# Altium schematic symbol library MyLibrarySum.SCHLIB: 142 symbols
Pins are listed as number, name and electrical type; pins without a type are passive.

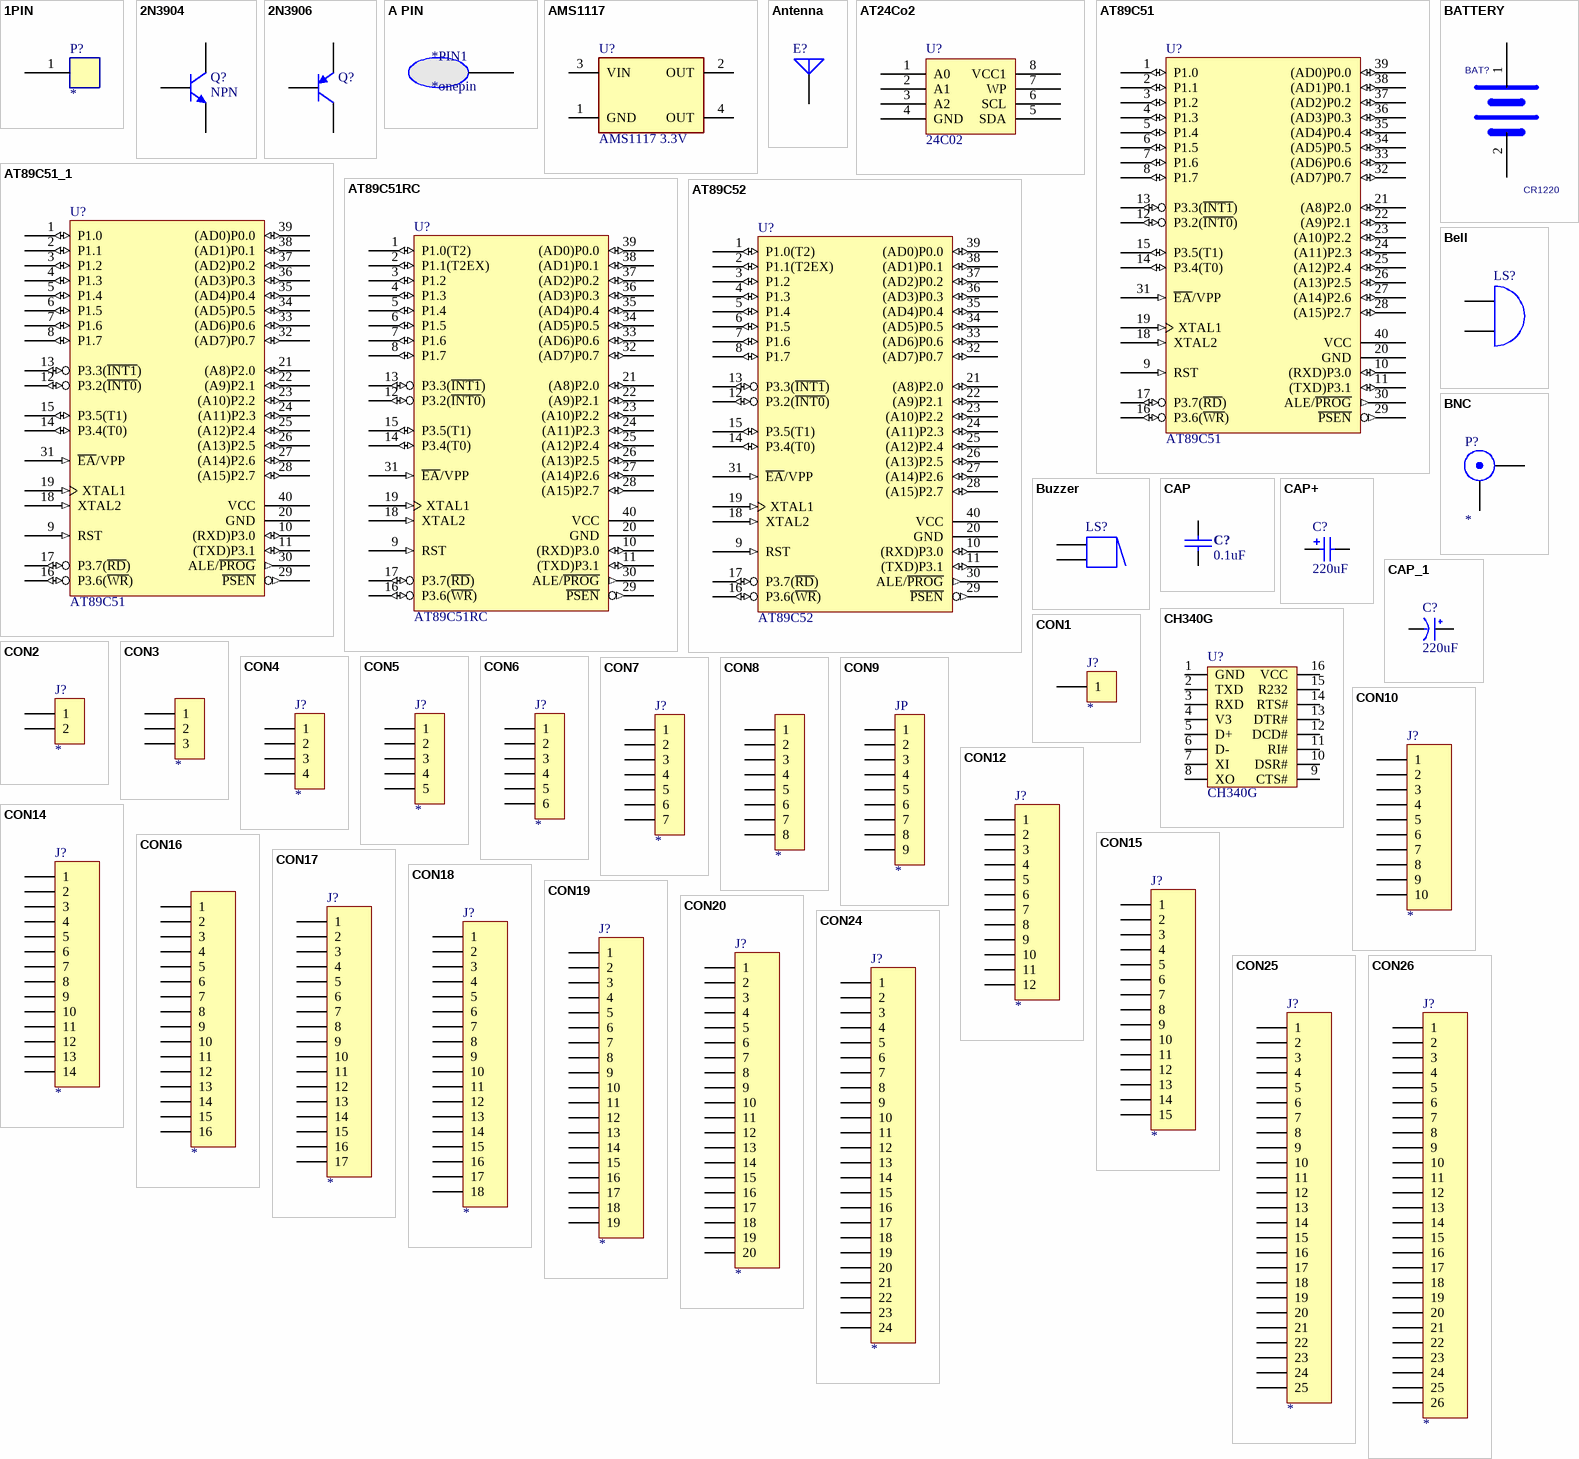
[diagram p0: symbols 1PIN to CON26]

## 1PIN
designator P?
footprint P
footprint HEADER-1
pins: 1

## 2N3904
designator Q?, comment NPN
NPN General Purpose Amplifier; Published: 8-Jun-2000; LatestRevisionDate: 15-Jan-2003; LatestRevisionNote: PCB Footprint 'BCY-W3/D4.7' replaced; DatasheetDocument: 1997; PackageDocument: Sep-1998; PackageReference: TO-92A; Publisher: Altium Limited; Code_JEDEC: TO-92A; ComponentLink1Description: Manufacturer Link; ComponentLink1URL: http://www.fairchildsemi.com/; ComponentLink2Description: Datasheet; ComponentLink2URL: http://www.fairchildsemi.com/ds/2N%2F2N3904.pdf
footprint TO-92A (TO, Flat Index; 3 In-Line, Axial Leads; Body Dia. 4.5mm; Leads 0.51 x 0.48 mm (max))
simulation model 2N3904 (NPN)
signal-integrity model 2N3904
pins: 1 E, 2 B, 3 C

## 2N3906
designator Q?
PNP General Purpose Amplifier; Published: 8-Jun-2000; LatestRevisionDate: 15-Jan-2003; LatestRevisionNote: PCB Footprint 'BCY-W3/D4.7' replaced; DatasheetDocument: 1997; PackageDocument: Sep-1998; PackageReference: TO-92A; Publisher: Altium Limited; Code_JEDEC: TO-92A; ComponentLink1Description: Manufacturer Link; ComponentLink1URL: http://www.fairchildsemi.com/; ComponentLink2Description: Datasheet; ComponentLink2URL: http://www.fairchildsemi.com/ds/2N%2F2N3906.pdf
footprint TO-92A (TO, Flat Index; 3 In-Line, Axial Leads; Body Dia. 4.5mm; Leads 0.51 x 0.48 mm (max))
simulation model 2N3906 (PNP)
signal-integrity model 2N3906
pins: 1 E, 2 B, 3 C

## A PIN
designator *PIN1, comment *onepin
footprint Pad_V2
footprint Pad
pins: onepin 25

## AMS1117
designator U?, comment AMS1117 3.3V
footprint SOT-223
pins: 1 GND, 2 OUT, 3 VIN, 4 OUT

## Antenna
designator E?
Generic Antenna; Published: 24-Mar-1999; LatestRevisionDate: 17-Jul-2002; LatestRevisionNote: Re-released for DXP Platform.; PackageReference: PIN1; Publisher: Altium Limited
footprint PIN1 (Generic Antenna; 1 Lead)
pins: 1 A

## AT24Co2
designator U?, comment 24C02
footprint SOP-8 (SOP)
pins: 1 A0, 2 A1, 3 A2, 4 GND, 5 SDA, 6 SCL, 7 WP, 8 VCC1

## AT89C51
designator U?
8-Bit Microcontroller with 4K Flash ROM
footprint DIP-40
footprint DIP40
pins: 1 P1.0 (io), 2 P1.1 (io), 3 P1.2 (io), 4 P1.3 (io), 5 P1.4 (io), 6 P1.5 (io), 7 P1.6 (io), 8 P1.7 (io), 9 RST (in), 10 (RXD)P3.0 (io), 11 (TXD)P3.1 (io), 12 P3.2(~{INT0}) (io), 13 P3.3(~{INT1}) (io), 14 P3.4(T0) (io), 15 P3.5(T1) (io), 16 P3.6(~{WR}) (io), 17 P3.7(~{RD}) (io), 18 XTAL2 (in), 19 XTAL1 (in), 20 GND (power), 21 (A8)P2.0 (io), 22 (A9)P2.1 (io), 23 (A10)P2.2 (io), 24 (A11)P2.3 (io), 25 (A12)P2.4 (io), 26 (A13)P2.5 (io), 27 (A14)P2.6 (io), 28 (A15)P2.7 (io), 29 ~{PSEN} (out), 30 ALE/~{PROG} (out), 31 ~{EA}/VPP (in), 32 (AD7)P0.7 (io), 33 (AD6)P0.6 (io), 34 (AD5)P0.5 (io), 35 (AD4)P0.4 (io), 36 (AD3)P0.3 (io), 37 (AD2)P0.2 (io), 38 (AD1)P0.1 (io), 39 (AD0)P0.0 (io), 40 VCC (power)

## AT89C51_1
designator U?, comment AT89C51
8-Bit Microcontroller with 4K Flash ROM
footprint DIP-40
footprint DIP40
pins: 1 P1.0 (io), 2 P1.1 (io), 3 P1.2 (io), 4 P1.3 (io), 5 P1.4 (io), 6 P1.5 (io), 7 P1.6 (io), 8 P1.7 (io), 9 RST (in), 10 (RXD)P3.0 (io), 11 (TXD)P3.1 (io), 12 P3.2(~{INT0}) (io), 13 P3.3(~{INT1}) (io), 14 P3.4(T0) (io), 15 P3.5(T1) (io), 16 P3.6(~{WR}) (io), 17 P3.7(~{RD}) (io), 18 XTAL2 (in), 19 XTAL1 (in), 20 GND (power), 21 (A8)P2.0 (io), 22 (A9)P2.1 (io), 23 (A10)P2.2 (io), 24 (A11)P2.3 (io), 25 (A12)P2.4 (io), 26 (A13)P2.5 (io), 27 (A14)P2.6 (io), 28 (A15)P2.7 (io), 29 ~{PSEN} (out), 30 ALE/~{PROG} (out), 31 ~{EA}/VPP (in), 32 (AD7)P0.7 (io), 33 (AD6)P0.6 (io), 34 (AD5)P0.5 (io), 35 (AD4)P0.4 (io), 36 (AD3)P0.3 (io), 37 (AD2)P0.2 (io), 38 (AD1)P0.1 (io), 39 (AD0)P0.0 (io), 40 VCC (power)

## AT89C51RC
designator U?
8-Bit Microcontroller with 32K Flash ROM
footprint DIP-40
footprint DIP40
pins: 1 P1.0(T2) (io), 2 P1.1(T2EX) (io), 3 P1.2 (io), 4 P1.3 (io), 5 P1.4 (io), 6 P1.5 (io), 7 P1.6 (io), 8 P1.7 (io), 9 RST (in), 10 (RXD)P3.0 (io), 11 (TXD)P3.1 (io), 12 P3.2(~{INT0}) (io), 13 P3.3(~{INT1}) (io), 14 P3.4(T0) (io), 15 P3.5(T1) (io), 16 P3.6(~{WR}) (io), 17 P3.7(~{RD}) (io), 18 XTAL2 (in), 19 XTAL1 (in), 20 GND (power), 21 (A8)P2.0 (io), 22 (A9)P2.1 (io), 23 (A10)P2.2 (io), 24 (A11)P2.3 (io), 25 (A12)P2.4 (io), 26 (A13)P2.5 (io), 27 (A14)P2.6 (io), 28 (A15)P2.7 (io), 29 ~{PSEN} (out), 30 ALE/~{PROG} (out), 31 ~{EA}/VPP (in), 32 (AD7)P0.7 (io), 33 (AD6)P0.6 (io), 34 (AD5)P0.5 (io), 35 (AD4)P0.4 (io), 36 (AD3)P0.3 (io), 37 (AD2)P0.2 (io), 38 (AD1)P0.1 (io), 39 (AD0)P0.0 (io), 40 VCC (power)

## AT89C52
designator U?
8-Bit Microcontroller with 8K Flash ROM
footprint DIP-40
footprint DIP40
pins: 1 P1.0(T2) (io), 2 P1.1(T2EX) (io), 3 P1.2 (io), 4 P1.3 (io), 5 P1.4 (io), 6 P1.5 (io), 7 P1.6 (io), 8 P1.7 (io), 9 RST (in), 10 (RXD)P3.0 (io), 11 (TXD)P3.1 (io), 12 P3.2(~{INT0}) (io), 13 P3.3(~{INT1}) (io), 14 P3.4(T0) (io), 15 P3.5(T1) (io), 16 P3.6(~{WR}) (io), 17 P3.7(~{RD}) (io), 18 XTAL2 (in), 19 XTAL1 (in), 20 GND (power), 21 (A8)P2.0 (io), 22 (A9)P2.1 (io), 23 (A10)P2.2 (io), 24 (A11)P2.3 (io), 25 (A12)P2.4 (io), 26 (A13)P2.5 (io), 27 (A14)P2.6 (io), 28 (A15)P2.7 (io), 29 ~{PSEN} (out), 30 ALE/~{PROG} (out), 31 ~{EA}/VPP (in), 32 (AD7)P0.7 (io), 33 (AD6)P0.6 (io), 34 (AD5)P0.5 (io), 35 (AD4)P0.4 (io), 36 (AD3)P0.3 (io), 37 (AD2)P0.2 (io), 38 (AD1)P0.1 (io), 39 (AD0)P0.0 (io), 40 VCC (power)

## BATTERY
designator BAT?, comment CR1220
footprint BATTERY-CELL (BAT1)
footprint BAT1
pins: 1 +, 2 GND

## Bell
designator LS?
Electrical Bell; Published: 24-Mar-1999; LatestRevisionDate: 17-Jul-2002; LatestRevisionNote: Re-released for DXP Platform.; PackageReference: PIN2; Publisher: Altium Limited
footprint PIN2 (Electrical Bell; 2 Leads)
footprint BUZZER
pins: 1 A, 2 B

## BNC
designator P?
BNC Connector
pins: 1 X, 2 Y

## Buzzer
designator LS?
Magnetic Transducer Buzzer; Published: 24-Mar-1999; LatestRevisionDate: 17-Dec-2003; LatestRevisionNote: Schematic revised, PCB Footprint replaced.; DatasheetDocument: 17-Dec-2003; PackageReference: ABSM-1574; Publisher: Altium Limited; ComponentLink1Description: Manufacturer Link; ComponentLink1URL: http://www.megastar.com/linecard/buzzmode/index.php
footprint ABSM-1574 (Magnetic Transducer Buzzer)
footprint BUZZER
pins: 1, 1A, 2, 2A
1 alternate drawing of the same symbol

## CAP
designator C?, comment 0.1uF
SMT电容; Precision: 6.3V耐压; LIB: SMT电容
footprint C0603
footprint C0402 (SMT电容)
footprint C0201
pins: 1, 2

## CAP+
designator C?, comment 220uF
footprint CAP-D8
footprint CAP-D8SMD
footprint CAP-D10
footprint CAP-D10SMD
pins: 1, 2

## CAP_1
designator C?, comment 220uF
footprint C1206
footprint CAP2.54 (RB.1/.2)
footprint CAP5.08 (RB.2/.4)
footprint CAP7.62 (25V 2200uF)
footprint CAP10.16 (50V10000uF)
footprint CAP10.9 (50V 2200uF)
footprint CAP3.0 (100V 10uF)
footprint CAP8.0 (25V/4700uF)
footprint CAP8.0_2 (50V/4700uF)
footprint C7040 (7MM*4MM)
footprint CC1010 (SMD;W:10mm;L:10mm;)
footprint CC6.56.5 (SMD;W:6.5mm;L:6.5mm;)
footprint CC88 (SMD;W:8mm;L:8mm;)
pins: 1 VCC, 2 GND

## CH340G
designator U?
USB2UART
footprint SOP16M
pins: 1 GND, 2 TXD, 3 RXD, 4 V3, 5 D+, 6 D-, 7 XI, 8 XO, 9 CTS#, 10 DSR#, 11 RI#, 12 DCD#, 13 DTR#, 14 RTS#, 15 R232, 16 VCC

## CON1
designator J?
Connector
pins: 1

## CON2
designator J?
Connector
pins: 1, 2

## CON3
designator ?
Connector
footprint SIP3
footprint SIP-3
pins: 1, 2, 3

## CON4
designator J?
Connector
pins: 1, 2, 3, 4

## CON5
designator J?
Connector
pins: 1, 2, 3, 4, 5

## CON6
designator J?
Connector
pins: 1, 2, 3, 4, 5, 6

## CON7
designator J?
Connector
pins: 1, 2, 3, 4, 5, 6, 7

## CON8
designator ?
Connector
footprint SIP8
footprint SIP-8
pins: 1, 2, 3, 4, 5, 6, 7, 8

## CON9
designator JP
Connector
footprint SIP9
pins: 1, 2, 3, 4, 5, 6, 7, 8, 9

## CON10
designator J?
Connector
pins: 1, 2, 3, 4, 5, 6, 7, 8, 9, 10

## CON12
designator J?
Connector
pins: 1, 2, 3, 4, 5, 6, 7, 8, 9, 10, 11, 12

## CON14
designator J?
Connector
pins: 1, 2, 3, 4, 5, 6, 7, 8, 9, 10, 11, 12, 13, 14

## CON15
designator J?
Connector
pins: 1, 2, 3, 4, 5, 6, 7, 8, 9, 10, 11, 12, 13, 14, 15

## CON16
designator ?
Connector
footprint SIP16
footprint SIP-16
pins: 1, 2, 3, 4, 5, 6, 7, 8, 9, 10, 11, 12, 13, 14, 15, 16

## CON17
designator J?
Connector
pins: 1, 2, 3, 4, 5, 6, 7, 8, 9, 10, 11, 12, 13, 14, 15, 16, 17

## CON18
designator J?
Connector
pins: 1, 2, 3, 4, 5, 6, 7, 8, 9, 10, 11, 12, 13, 14, 15, 16, 17, 18

## CON19
designator J?
Connector
pins: 1, 2, 3, 4, 5, 6, 7, 8, 9, 10, 11, 12, 13, 14, 15, 16, 17, 18, 19

## CON20
designator J?
Connector
pins: 1, 2, 3, 4, 5, 6, 7, 8, 9, 10, 11, 12, 13, 14, 15, 16, 17, 18, 19, 20

## CON24
designator J?
Connector
pins: 1, 2, 3, 4, 5, 6, 7, 8, 9, 10, 11, 12, 13, 14, 15, 16, 17, 18, 19, 20, 21, 22, 23, 24

## CON25
designator J?
Connector
pins: 1, 2, 3, 4, 5, 6, 7, 8, 9, 10, 11, 12, 13, 14, 15, 16, 17, 18, 19, 20, 21, 22, 23, 24, 25

## CON26
designator J?
Connector
pins: 1, 2, 3, 4, 5, 6, 7, 8, 9, 10, 11, 12, 13, 14, 15, 16, 17, 18, 19, 20, 21, 22, 23, 24, 25, 26

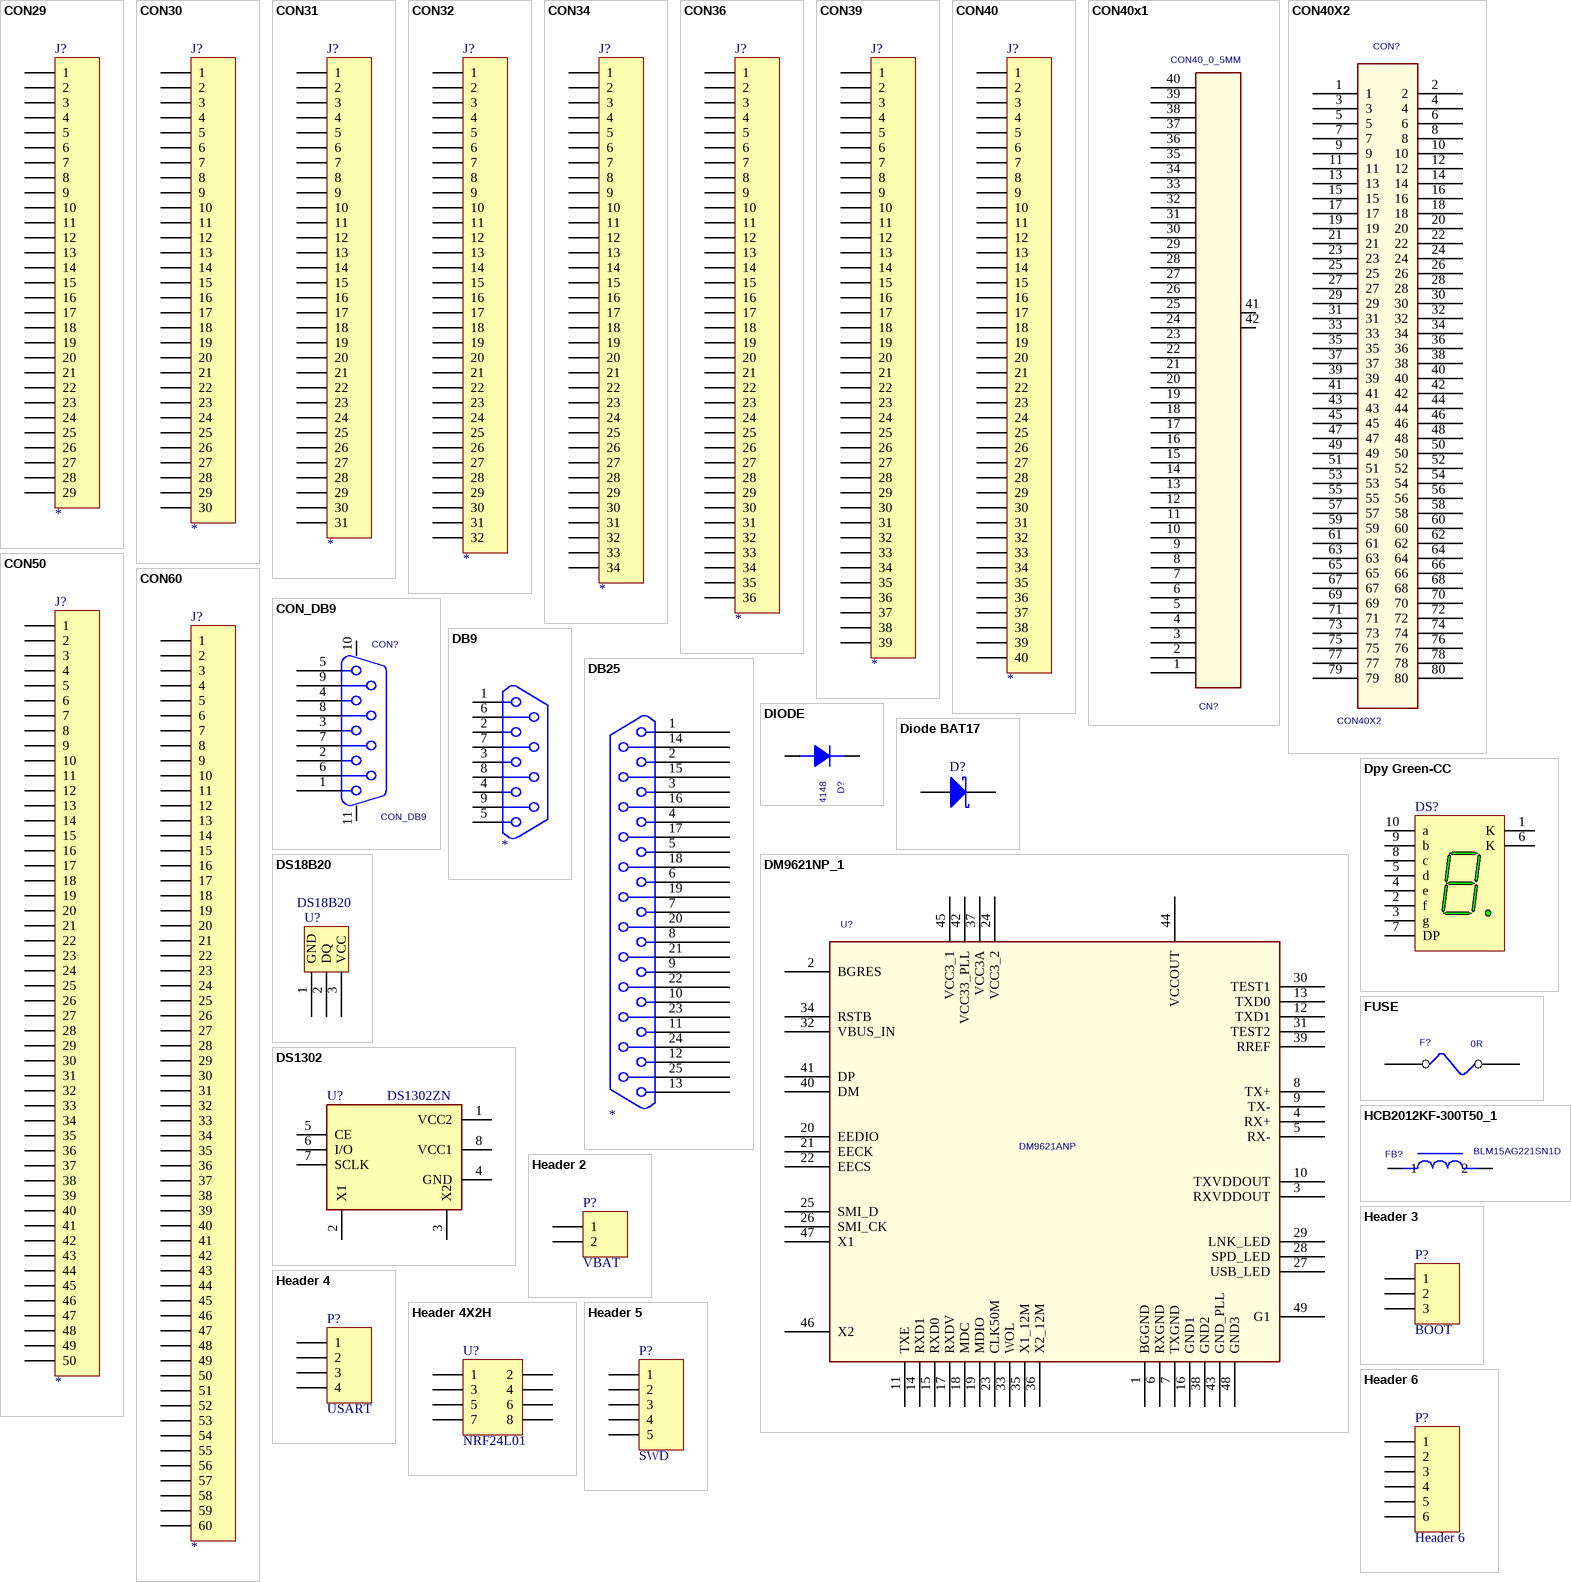
[diagram p1: symbols CON29 to Header 6]

## CON29
designator J?
Connector
pins: 1, 2, 3, 4, 5, 6, 7, 8, 9, 10, 11, 12, 13, 14, 15, 16, 17, 18, 19, 20, 21, 22, 23, 24, 25, 26, 27, 28, 29

## CON30
designator J?
Connector
pins: 1, 2, 3, 4, 5, 6, 7, 8, 9, 10, 11, 12, 13, 14, 15, 16, 17, 18, 19, 20, 21, 22, 23, 24, 25, 26, 27, 28, 29, 30

## CON31
designator J?
Connector
pins: 1, 2, 3, 4, 5, 6, 7, 8, 9, 10, 11, 12, 13, 14, 15, 16, 17, 18, 19, 20, 21, 22, 23, 24, 25, 26, 27, 28, 29, 30, 31

## CON32
designator J?
Connector
pins: 1, 2, 3, 4, 5, 6, 7, 8, 9, 10, 11, 12, 13, 14, 15, 16, 17, 18, 19, 20, 21, 22, 23, 24, 25, 26, 27, 28, 29, 30, 31, 32

## CON34
designator J?
Connector
pins: 1, 2, 3, 4, 5, 6, 7, 8, 9, 10, 11, 12, 13, 14, 15, 16, 17, 18, 19, 20, 21, 22, 23, 24, 25, 26, 27, 28, 29, 30, 31, 32, 33, 34

## CON36
designator J?
Connector
pins: 1, 2, 3, 4, 5, 6, 7, 8, 9, 10, 11, 12, 13, 14, 15, 16, 17, 18, 19, 20, 21, 22, 23, 24, 25, 26, 27, 28, 29, 30, 31, 32, 33, 34, 35, 36

## CON39
designator J?
Connector
pins: 1, 2, 3, 4, 5, 6, 7, 8, 9, 10, 11, 12, 13, 14, 15, 16, 17, 18, 19, 20, 21, 22, 23, 24, 25, 26, 27, 28, 29, 30, 31, 32, 33, 34, 35, 36, 37, 38, 39

## CON40
designator J?
Connector
pins: 1, 2, 3, 4, 5, 6, 7, 8, 9, 10, 11, 12, 13, 14, 15, 16, 17, 18, 19, 20, 21, 22, 23, 24, 25, 26, 27, 28, 29, 30, 31, 32, 33, 34, 35, 36, 37, 38, 39, 40

## CON40x1
designator CN?, comment CON40_0_5MM
footprint CON60_0_5MM
footprint FPC40-050
pins: 1, 2, 3, 4, 5, 6, 7, 8, 9, 10, 11, 12, 13, 14, 15, 16, 17, 18, 19, 20, 21, 22, 23, 24, 25, 26, 27, 28, 29, 30, 31, 32, 33, 34, 35, 36, 37, 38, 39, 40, 41, 42

## CON40X2
designator CON?
footprint CON40X2_0_8MM
footprint CON2X40-0_5MM-BB
pins: 1, 2, 3, 4, 5, 6, 7, 8, 9, 10, 11, 12, 13, 14, 15, 16, 17, 18, 19, 20, 21, 22, 23, 24, 25, 26, 27, 28, 29, 30, 31, 32, 33, 34, 35, 36, 37, 38, 39, 40, 41, 42, 43, 44, 45, 46, 47, 48, 49, 50, 51, 52, 53, 54, 55, 56, 57, 58, 59, 60, 61, 62, 63, 64, 65, 66, 67, 68, 69, 70, 71, 72, 73, 74, 75, 76, 77, 78, 79, 80

## CON50
designator J?
Connector
pins: 1, 2, 3, 4, 5, 6, 7, 8, 9, 10, 11, 12, 13, 14, 15, 16, 17, 18, 19, 20, 21, 22, 23, 24, 25, 26, 27, 28, 29, 30, 31, 32, 33, 34, 35, 36, 37, 38, 39, 40, 41, 42, 43, 44, 45, 46, 47, 48, 49, 50

## CON60
designator J?
Connector
pins: 1, 2, 3, 4, 5, 6, 7, 8, 9, 10, 11, 12, 13, 14, 15, 16, 17, 18, 19, 20, 21, 22, 23, 24, 25, 26, 27, 28, 29, 30, 31, 32, 33, 34, 35, 36, 37, 38, 39, 40, 41, 42, 43, 44, 45, 46, 47, 48, 49, 50, 51, 52, 53, 54, 55, 56, 57, 58, 59, 60

## CON_DB9
designator CON?
footprint DB9
footprint dsub9-ra-fe
pins: 1, 2, 3, 4, 5, 6, 7, 8, 9, 10, 11

## DB9
designator ?
footprint DB9M
pins: 1, 2, 3, 4, 5, 6, 7, 8, 9

## DB25
designator ?
footprint DB-25/M
footprint DB25Z
pins: 1, 2, 3, 4, 5, 6, 7, 8, 9, 10, 11, 12, 13, 14, 15, 16, 17, 18, 19, 20, 21, 22, 23, 24, 25

## DIODE
designator D?, comment IN4148
footprint D1206
pins: 1 A, 2 K

## Diode BAT17
designator D?
Silicon RF Schottky Diode for Mixer Applications in the VHF/UHF Range; Note: Pin 2 is not connected and not drawn.; Published: 21-Mar-2003; DatasheetDocument: Oct-1999; PackageDocument: Sep-2001; PackageReference: SOT-23; Publisher: Altium Limited; ComponentLink1Description: Manufacturer Link; ComponentLink1URL: http://www.infineon.com/; ComponentLink2Description: Datasheet; ComponentLink2URL: http://www.infineon.com/upload/Document/cmc_upload/documents/009/363/bat17series.pdf
footprint SOT-23 (SOT-23; 3 Leads; Body 3.0 x 2.6 mm, inc. leads (LxW max))
simulation model D188 (DIODE)
pins: 1 A, 3 K

## DM9621NP_1
designator U?, comment DM9621ANP
footprint QFN48-050-0707LH
footprint QFN48-050-0707LH
pins: 1 BGGND, 2 BGRES, 3 RXVDDOUT, 4 RX+, 5 RX-, 6 RXGND, 7 TXGND, 8 TX+, 9 TX-, 10 TXVDDOUT, 11 TXE, 12 TXD1, 13 TXD0, 14 RXD1, 15 RXD0, 16 GND1, 17 RXDV, 18 MDC, 19 MDIO, 20 EEDIO, 21 EECK, 22 EECS, 23 CLK50M, 24 VCC3_2, 25 SMI_D, 26 SMI_CK, 27 USB_LED, 28 SPD_LED, 29 LNK_LED, 30 TEST1, 31 TEST2, 32 VBUS_IN, 33 WOL, 34 RSTB, 35 X1_12M, 36 X2_12M, 37 VCC3A, 38 GND2, 39 RREF, 40 DM, 41 DP, 42 VCC33_PLL, 43 GND_PLL, 44 VCCOUT, 45 VCC3_1, 46 X2, 47 X1, 48 GND3, 49 G1

## Dpy Green-CC
designator DS?
7.62 mm Black Surface Green 7-Segment Display: CC, RH DP; MinimumIntensity: 860 ucd; Note: IF = 10 mA; Note: Pins 1 and 6 are redundant Cathodes.; Published: 8-Jun-2000; LatestRevisionDate: 17-Dec-2003; LatestRevisionNote: Schematic revised, PCB Footprint replaced.; DatasheetDocument: 19-Feb-2002; PackageDocument: 19-Feb-2002; PackageReference: LEDDIP-10; Publisher: Altium Limited; Colour: Green; ComponentLink1Description: Manufacturer Link; ComponentLink1URL: http://www.agilent.com/
footprint LEDDIP-10 (LED, 7-Segment Display, 7.62 mm, RHD; 10 Leads; Row Space 5.08 mm; Pitch 2.54 mm)
simulation model HDSP_A513 (SUBCKT)
pins: 1 K "Cathode", 2 f "Anode", 3 g "Anode", 4 e "Anode", 5 d "Anode", 6 K "Cathode", 7 DP "Anode", 8 c "Anode", 9 b "Anode", 10 a "Anode"

## DS18B20
designator U?
footprint DS18B20
pins: 1 GND, 2 DQ, 3 VCC

## DS1302
designator U?, comment DS1302ZN
footprint SOP-8
pins: 1 VCC2, 2 X1, 3 X2, 4 GND, 5 CE, 6 I/O, 7 SCLK, 8 VCC1

## FUSE
designator F?, comment 0R
footprint R0603
pins: 1, 2

## HCB2012KF-300T50_1
designator FB?, comment BLM15AG221SN1D
footprint FB2012
footprint L0402
pins: 1, 2

## Header 2
designator P?, comment VBAT
Header, 2-Pin; LatestRevisionDate: 17-Jul-2002; LatestRevisionNote: Re-released for DXP Platform.; Publisher: Altium Limited
footprint HDR1X2 (Connector; Header; 2 Position)
signal-integrity model Connector
pins: 1, 2

## Header 3
designator P?, comment BOOT
Header, 3-Pin; LatestRevisionDate: 17-Jul-2002; LatestRevisionNote: Re-released for DXP Platform.; Publisher: Altium Limited
footprint HDR1X3 (Connector; Header; 3 Position)
signal-integrity model Connector
pins: 1, 2, 3

## Header 4
designator P?, comment USART
Header, 4-Pin; LatestRevisionDate: 17-Jul-2002; LatestRevisionNote: Re-released for DXP Platform.; Publisher: Altium Limited
footprint HDR1X4 (Connector; Header; 4 Position)
signal-integrity model Connector
pins: 1, 2, 3, 4

## Header 4X2H
designator U?, comment NRF24L01
Header, 4-Pin, Dual row, Right Angle; LatestRevisionDate: 17-Jul-2002; LatestRevisionNote: Re-released for DXP Platform.; Publisher: Altium Limited
footprint LC-HDR2X4H
signal-integrity model Connector
pins: 1, 2, 3, 4, 5, 6, 7, 8

## Header 5
designator P?, comment SWD
Header, 5-Pin; LatestRevisionDate: 17-Jul-2002; LatestRevisionNote: Re-released for DXP Platform.; Publisher: Altium Limited
footprint HDR1X5 (Connector; Header; 5 Position)
signal-integrity model Connector
pins: 1, 2, 3, 4, 5

## Header 6
designator P?
Header, 6-Pin; LatestRevisionDate: 17-Jul-2002; LatestRevisionNote: Re-released for DXP Platform.; Publisher: Altium Limited
footprint HDR1X6 (Connector; Header; 6 Position)
signal-integrity model Connector
pins: 1, 2, 3, 4, 5, 6

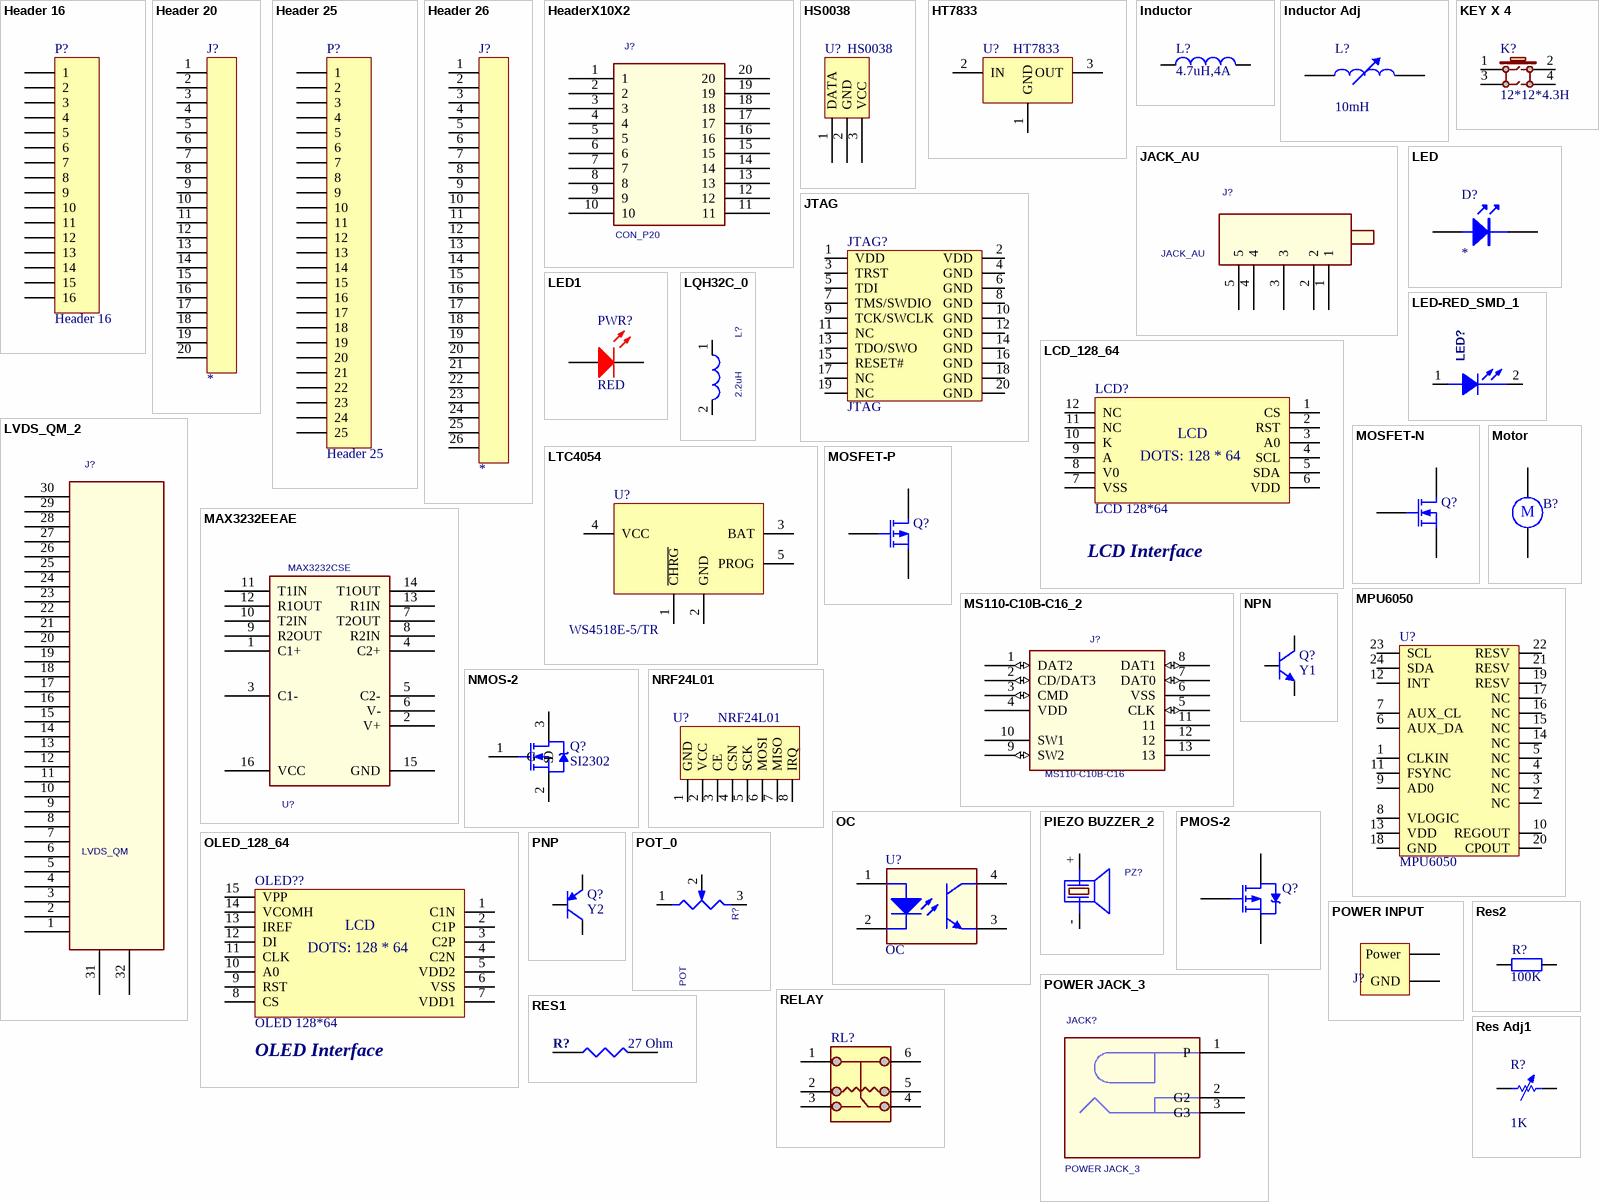
[diagram p2: symbols Header 16 to Res Adj1]

## Header 16
designator P?
Header, 16-Pin; LatestRevisionDate: 17-Jul-2002; LatestRevisionNote: Re-released for DXP Platform.; Publisher: Altium Limited
footprint HDR1X16 (Connector; Header; 16 Position)
signal-integrity model Connector
pins: 1, 2, 3, 4, 5, 6, 7, 8, 9, 10, 11, 12, 13, 14, 15, 16

## Header 20
designator J?
footprint IDC20
pins: 1, 2, 3, 4, 5, 6, 7, 8, 9, 10, 11, 12, 13, 14, 15, 16, 17, 18, 19, 20

## Header 25
designator P?
Header, 25-Pin; LatestRevisionDate: 17-Jul-2002; LatestRevisionNote: Re-released for DXP Platform.; Publisher: Altium Limited
footprint HDR1X25 (Connector; Header; 25 Position)
signal-integrity model Connector
pins: 1, 2, 3, 4, 5, 6, 7, 8, 9, 10, 11, 12, 13, 14, 15, 16, 17, 18, 19, 20, 21, 22, 23, 24, 25

## Header 26
designator J?
footprint IDC26
pins: 1, 2, 3, 4, 5, 6, 7, 8, 9, 10, 11, 12, 13, 14, 15, 16, 17, 18, 19, 20, 21, 22, 23, 24, 25, 26

## HeaderX10X2
designator J?, comment CON_P20
footprint HDRMS2MM-2X10
pins: 1, 2, 3, 4, 5, 6, 7, 8, 9, 10, 11, 12, 13, 14, 15, 16, 17, 18, 19, 20

## HS0038
designator U?
footprint HS0038
pins: 1 DATA, 2 GND, 3 VCC

## HT7833
designator U?
footprint LC-SOT-89(SOT-89-3)
pins: 1 GND, 2 IN, 3 OUT

## Inductor
designator L?  value 4.7uH,4A  (hidden comment: Inductor)
Code_IEC: 1005; Published: 8-Jun-2000; LatestRevisionDate: 17-Jul-2002; LatestRevisionNote: Re-released for DXP Platform.; PackageReference: 0402-A; Publisher: Altium Limited; Code_JEITA: 0402
simulation model INDUCTOR (Inductor)
signal-integrity model Inductor
footprint LC-1812_L
pins: 1, 2

## Inductor Adj
designator L?  value 10mH
Adjustable Inductor; Set Position: 0.5; Published: 24-Mar-1999; LatestRevisionDate: 17-Jul-2002; LatestRevisionNote: Re-released for DXP Platform.; PackageReference: AXIAL-0.8; Publisher: Altium Limited
footprint AXIAL-0.8 (Adjustable Inductor; 2 Leads)
simulation model INDUCTOR (Inductor)
signal-integrity model Inductor Adj
pins: 1, 2

## JACK_AU
designator J?
footprint ear_jack
pins: 1, 2, 3, 4, 5

## JTAG
designator JTAG?
footprint JTAG (ULINK_JTAG-20)
footprint JTAG_20 (JTAG,20PIN)
pins: 1 VDD, 2 VDD, 3 TRST, 4 GND, 5 TDI, 6 GND, 7 TMS/SWDIO, 8 GND, 9 TCK/SWCLK, 10 GND, 11 NC, 12 GND, 13 TDO/SWO, 14 GND, 15 RESET#, 16 GND, 17 NC, 18 GND, 19 NC, 20 GND

## KEY X 4
designator K?, comment 12*12*4.3H
footprint KEY-SMD12*12*4.3
pins: 1, 2, 3, 4

## LCD_128_64
designator LCD?, comment LCD 128*64  USAGE: LCD Interface
液晶
footprint LCD - BL - TOP (LCD 12PIN + 2 PIN)
footprint LCD - BL (LCD 12PIN + 2 PIN)
footprint LCD - BL - ii (LCD 12PIN + 2 PIN)
footprint LCD - BL - iii (LCD 12PIN + 2 PIN)
footprint LCD - BL - iiii (LCD 12PIN + 2 PIN)
footprint LCD - BL - IIIII
footprint LCD - BL - VII (LCD 12PIN + 2 PIN)
footprint LCD - BL - VII-3
pins: 1 CS, 2 RST, 3 A0, 4 SCL, 5 SDA, 6 VDD, 7 VSS, 8 V0, 9 A, 10 K, 11 NC, 12 NC
text: LCD; DOTS: 128 * 64

## LED
designator D?
pins: A 1, K 2

## LED1
designator PWR?, comment RED
footprint LED-0805-R
pins: 1 A, 2 K

## LED-RED_SMD_1
designator LED?, comment LED-Red (SMD 2012)  (value not drawn)
footprint LED-3216
footprint LED-2012
pins: 1 ANODE, 2 CATHODE

## LQH32C_0
designator L?, comment 2.2uH
footprint LQH32C
footprint L3X3MM
pins: 1, 2

## LTC4054
designator U?, comment WS4518E-5/TR
footprint SOT-23-5
pins: 1 ~{CHRG}, 2 GND, 3 BAT, 4 VCC, 5 PROG

## LVDS_QM_2
designator J?, comment LVDS_QM
footprint fpc30-050
pins: 1 $PIN30, 2 $PIN29, 3 $PIN28, 4 $PIN27, 5 $PIN26, 6 $PIN25, 7 $PIN24, 8 $PIN22, 9 $PIN21, 10 $PIN20, 11 $PIN19, 12 $PIN18, 13 $PIN17, 14 $PIN16, 15 $PIN15, 16 $PIN14, 17 $PIN13, 18 $PIN12, 19 $PIN11, 20 $PIN10, 21 $PIN9, 22 $PIN8, 23 $PIN7, 24 $PIN6, 25 $PIN5, 26 $PIN4, 27 $PIN3, 28 $PIN2, 29 $PIN1, 30 $PIN0, 31, 32

## MAX3232EEAE
designator U?, comment MAX3232CSE
footprint 16
footprint SOIC16
pins: 1 C1+, 2 V+, 3 C1-, 4 C2+, 5 C2-, 6 V-, 7 T2OUT, 8 R2IN, 9 R2OUT, 10 T2IN, 11 T1IN, 12 R1OUT, 13 R1IN, 14 T1OUT, 15 GND (power), 16 VCC (power)

## MOSFET-N
designator Q?
N-Channel MOSFET; PackageDocument: 1995/1996; Published: 8-Jun-2000; LatestRevisionDate: 17-Jul-2002; LatestRevisionNote: Re-released for DXP Platform.; PackageReference: E3; Publisher: Altium Limited
footprint E3 (TO, Flat Index; 3 In-Line, Axial Leads; Body Dia. 4.6mm; Lead Dia. 0.5 mm (max))
simulation model NMOS (MOSFET-N)
pins: 1 D, 2 G, 3 S

## MOSFET-P
designator Q?
P-Channel MOSFET; PackageDocument: 1995/1996; Published: 8-Jun-2000; LatestRevisionDate: 17-Jul-2002; LatestRevisionNote: Re-released for DXP Platform.; PackageReference: E3; Publisher: Altium Limited
footprint E3 (TO, Flat Index; 3 In-Line, Axial Leads; Body Dia. 4.6mm; Lead Dia. 0.5 mm (max))
simulation model PMOS (MOSFET-P)
pins: 1 D, 2 G, 3 S

## Motor
designator B?
Motor, General Kind; Published: 24-Mar-1999; LatestRevisionDate: 17-Jul-2002; LatestRevisionNote: Re-released for DXP Platform.; PackageReference: RB5-10.5; Publisher: Altium Limited
footprint RB5-10.5 (Motor, General Kind; 2 Leads)
pins: 1, 2
text: M

## MPU6050
designator U?
9轴运动处理传感器
footprint LC-QFN-24_4x4x05P
pins: 1 CLKIN, 2 NC, 3 NC, 4 NC, 5 NC, 6 AUX_DA, 7 AUX_CL, 8 VLOGIC, 9 AD0, 10 REGOUT, 11 FSYNC, 12 INT, 13 VDD, 14 NC, 15 NC, 16 NC, 17 NC, 18 GND, 19 RESV, 20 CPOUT, 21 RESV, 22 RESV, 23 SCL, 24 SDA

## MS110-C10B-C16_2
designator J?, comment MS110-C10B-C16
footprint TF-CARD
pins: 1 DAT2 (io), 2 CD/DAT3 (io), 3 CMD (io), 4 VDD (power), 5 CLK (io), 6 VSS (power), 7 DAT0 (io), 8 DAT1 (io), 9 SW2 (io), 10 SW1 (power), 11, 12, 13

## NMOS-2
designator Q?, comment SI2302
N-Channel Power MOSFET; Note: Pin 2 is electrically connected to pin 4.; Published: 8-Jun-2000; LatestRevisionDate: 17-Jul-2002; LatestRevisionNote: Re-released for DXP Platform.; DatasheetVersion: PD-9.814; PackageVersion: Feb-1997; PackageReference: TO-220AB; Publisher: Altium Limited; PackageDescription: TO, Thru-Hole, Vertical, Heatsink Mounted; 3 In-Line Leads; Pitch 2.54 mm; ComponentLink1Description: Manufacturer Link; ComponentLink1URL: http://www.irf.com/
footprint LC-SOT-23(SOT-23-3)
simulation model IRF1010 (Spice Subcircuit)
pins: 1 G, 2 S, 3 D

## NPN
designator Q?, comment Y1
footprint SOT-23-3
pins: 1 B, 2 E, 3 C

## NRF24L01
designator U?
footprint NRF24L01 (NRF24L01_MODE)
pins: 1 GND, 2 VCC, 3 CE, 4 CSN, 5 SCK, 6 MOSI, 7 MISO, 8 IRQ

## OC
designator U?
footprint SMD-4
pins: 1, 2, 3, 4

## OLED_128_64
designator OLED??, comment OLED 128*64  USAGE: OLED Interface
液晶
footprint LCD - BL - TOP (LCD 12PIN + 2 PIN)
footprint OLED_12864_15pin_V4
footprint LCD - BL - ii (LCD 12PIN + 2 PIN)
footprint LCD - BL - iii (LCD 12PIN + 2 PIN)
pins: 1 C1N, 2 C1P, 3 C2P, 4 C2N, 5 VDD2, 6 VSS, 7 VDD1, 8 CS, 9 RST, 10 A0, 11 CLK, 12 DI, 13 IREF, 14 VCOMH, 15 VPP
text: LCD; DOTS: 128 * 64

## PIEZO BUZZER_2
designator PZ?  (value not drawn)
footprint SPEAKER
pins: +, -

## PMOS-2
designator Q?
P-Channel Power MOSFET; Note: Pin 4 not drawn and electrically connected to Pin 2.; Published: 8-Jun-2000; LatestRevisionDate: 17-Jul-2002; LatestRevisionNote: Re-released for DXP Platform.; DatasheetDocument: PD-9.390D; PackageReference: TO-220AB; Publisher: Altium Limited; Code_JEDEC: TO-220-AB; ComponentLink1Description: Manufacturer Link; ComponentLink1URL: http://www.irf.com/
footprint TO-220AB (TO, Thru-Hole, Vertical, Heatsink Mounted; 3 In-Line Leads; Pitch 2.54 mm)
simulation model IRF9510 (Spice Subcircuit)
pins: 1 G, 2 D, 3 S

## PNP
designator Q?, comment Y2
footprint SOT-23-3
pins: 1 B, 2 E, 3 C

## POT_0
designator R?, comment POT
footprint sr2_54
pins: 1 A, 2 WIPER, 3 B

## POWER INPUT
designator J?, comment JUMP  (value not drawn)
Power input
footprint POWER INPUT
pins: 1 Power (power), 2 GND (power)

## POWER JACK_3
designator JACK?
footprint jack-2_5mm_b
pins: 1 P, 2 G2, 3 G3

## RELAY
designator RL?  (value not drawn)
footprint HK4100F
pins: 1, 2, 3, 4, 5, 6

## RES1
designator R?, comment 27 Ohm
SMT电阻; Precision: 5% 精度; LIB: SMT 电阻
footprint R0603
footprint R0402 (SMT电阻)
footprint R0201
pins: 1, 2

## Res2
designator R?  value 100K  (hidden comment: Res2)
Resistor; Published: 8-Jun-2000; LatestRevisionDate: 17-Jul-2002; LatestRevisionNote: Re-released for DXP Platform.; PackageReference: AXIAL-0.4; Publisher: Altium Limited
simulation model RESISTOR (Resistor)
signal-integrity model Res
footprint LC-0603_R
pins: 1, 2

## Res Adj1
designator R?  value 1K
Variable Resistor; Set Position: 0.5; Published: 8-Jun-2000; LatestRevisionDate: 17-Jul-2002; LatestRevisionNote: Re-released for DXP Platform.; PackageReference: AXIAL-0.7; Publisher: Altium Limited
footprint AXIAL-0.7 (Variable Resistor; 2 Leads)
simulation model VRES (Variable Resistor)
signal-integrity model Res Adj
pins: 1, 2

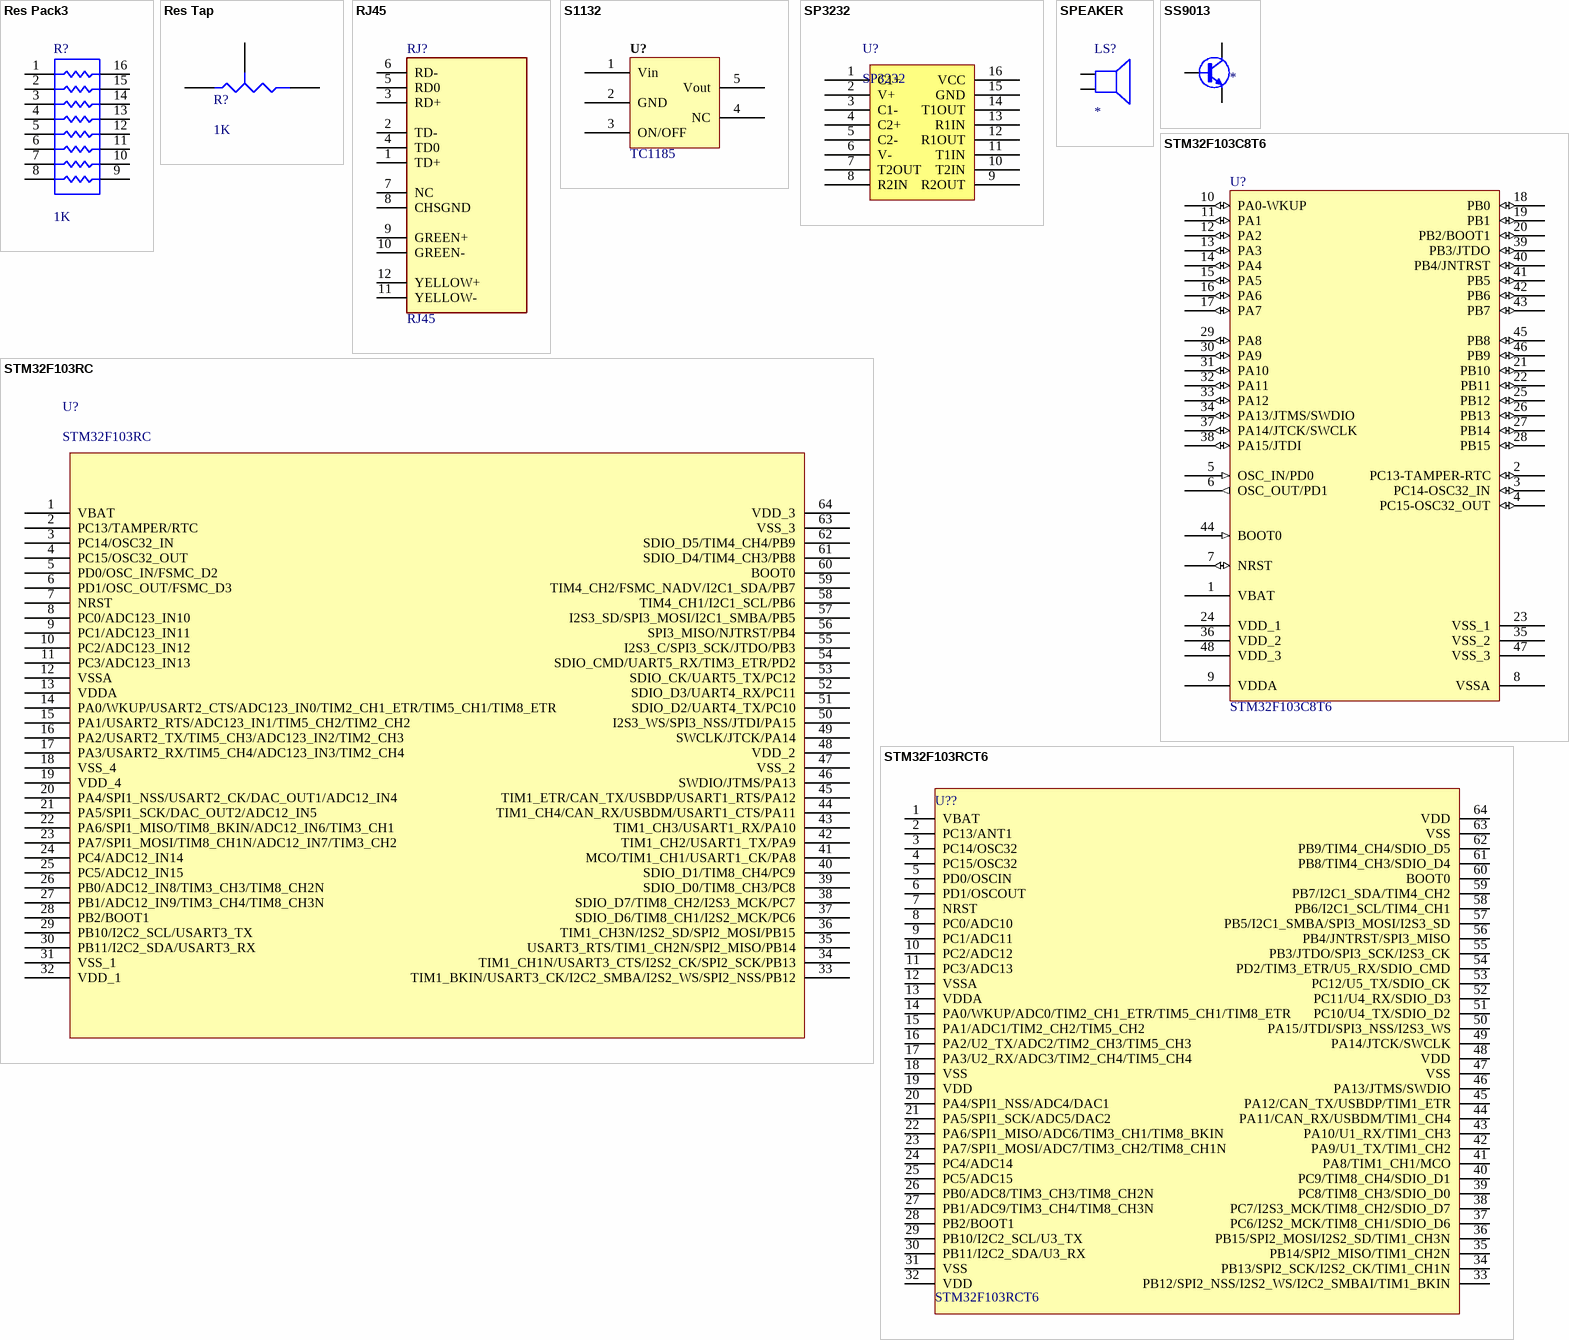
[diagram p3: symbols Res Pack3 to STM32F103RCT6]

## Res Pack3
designator R?  value 1K
Isolated Resistor Network; Published: 24-Mar-1999; LatestRevisionDate: 17-Jul-2002; LatestRevisionNote: Re-released for DXP Platform.; PackageReference: SO-16; Publisher: Altium Limited
footprint SO-16 (Small Outline; 16 Leads; Body Width 5.6 mm; Pitch 1.27 mm)
simulation model respack_8 (Spice Subcircuit)
pins: 1, 2, 3, 4, 5, 6, 7, 8, 9, 10, 11, 12, 13, 14, 15, 16

## Res Tap
designator R?  value 1K
Tapped Resistor; Sim Note: Enter the Resistance value and the set point into parameter fields.; Set Position: 0.5; Published: 24-Mar-1999; LatestRevisionDate: 17-Jul-2002; LatestRevisionNote: Re-released for DXP Platform.; PackageReference: VR3; Publisher: Altium Limited
footprint VR3 (Tapped Resistor; 3 Leads)
simulation model POT (Potentiometer)
signal-integrity model Res Tap
pins: 1 A, 2 B, 3 TAP

## RJ45
designator RJ?
footprint RJ45_LED
pins: 1 TD+, 2 TD-, 3 RD+, 4 TD0, 5 RD0, 6 RD-, 7 NC, 8 CHSGND, 9 GREEN+, 10 GREEN-, 11 YELLOW-, 12 YELLOW+

## S1132
designator U?, comment TC1185
DC-DC
footprint SOT-23-5
pins: 1 Vin, 2 GND, 3 ON/OFF, 4 NC, 5 Vout

## SP3232
designator U?
pins: 1 C1+, 2 V+, 3 C1-, 4 C2+, 5 C2-, 6 V-, 7 T2OUT, 8 R2IN, 9 R2OUT, 10 T2IN, 11 T1IN, 12 R1OUT, 13 R1IN, 14 T1OUT, 15 GND, 16 VCC

## SPEAKER
designator LS?
pins: 1, 2

## SS9013
designator ?
pins: 1 e, 2 b, 3 c

## STM32F103C8T6
designator U?
STM32 ARM-based 32-bit MCU with 64 Kbytes Flash, 48-pin LQFP, Industrial Temperature; Published: 30-May-2008; DatasheetVersion: rev6, Mar-2008; PackageVersion: Mar-2008; PackageReference: LQFP48; Publisher: Altium Limited; PackageDescription: 48-Pin Low-Profile Quad Flat Pack, 7 x 7 mm Body, 0.5 mm Pitch (LQFP48); ComponentLink1Description: Manufacturer Link; ComponentLink1URL: www.st.com/stm32; ComponentLink2Description: Datasheet; ComponentLink2URL: http://www.st.com/stonline/products/literature/ds/13587.pdf
footprint LC-LQFP-48_7x7x05P
pins: 1 VBAT (power), 2 PC13-TAMPER-RTC (io), 3 PC14-OSC32_IN (io), 4 PC15-OSC32_OUT (io), 5 OSC_IN/PD0 (in), 6 OSC_OUT/PD1 (out), 7 NRST (io), 8 VSSA (power), 9 VDDA (power), 10 PA0-WKUP (io), 11 PA1 (io), 12 PA2 (io), 13 PA3 (io), 14 PA4 (io), 15 PA5 (io), 16 PA6 (io), 17 PA7 (io), 18 PB0 (io), 19 PB1 (io), 20 PB2/BOOT1 (io), 21 PB10 (io), 22 PB11 (io), 23 VSS_1 (power), 24 VDD_1 (power), 25 PB12 (io), 26 PB13 (io), 27 PB14 (io), 28 PB15 (io), 29 PA8 (io), 30 PA9 (io), 31 PA10 (io), 32 PA11 (io), 33 PA12 (io), 34 PA13/JTMS/SWDIO (io), 35 VSS_2 (power), 36 VDD_2 (power), 37 PA14/JTCK/SWCLK (io), 38 PA15/JTDI (io), 39 PB3/JTDO (io), 40 PB4/JNTRST (io), 41 PB5 (io), 42 PB6 (io), 43 PB7 (io), 44 BOOT0 (in), 45 PB8 (io), 46 PB9 (io), 47 VSS_3 (power), 48 VDD_3 (power)

## STM32F103RC
designator U?
pins: 1 VBAT, 2 PC13/TAMPER/RTC, 3 PC14/OSC32_IN, 4 PC15/OSC32_OUT, 5 PD0/OSC_IN/FSMC_D2, 6 PD1/OSC_OUT/FSMC_D3, 7 NRST, 8 PC0/ADC123_IN10, 9 PC1/ADC123_IN11, 10 PC2/ADC123_IN12, 11 PC3/ADC123_IN13, 12 VSSA, 13 VDDA, 14 PA0/WKUP/USART2_CTS/ADC123_IN0/TIM2_CH1_ETR/TIM5_CH1/TIM8_ETR, 15 PA1/USART2_RTS/ADC123_IN1/TIM5_CH2/TIM2_CH2, 16 PA2/USART2_TX/TIM5_CH3/ADC123_IN2/TIM2_CH3, 17 PA3/USART2_RX/TIM5_CH4/ADC123_IN3/TIM2_CH4, 18 VSS_4, 19 VDD_4, 20 PA4/SPI1_NSS/USART2_CK/DAC_OUT1/ADC12_IN4, 21 PA5/SPI1_SCK/DAC_OUT2/ADC12_IN5, 22 PA6/SPI1_MISO/TIM8_BKIN/ADC12_IN6/TIM3_CH1, 23 PA7/SPI1_MOSI/TIM8_CH1N/ADC12_IN7/TIM3_CH2, 24 PC4/ADC12_IN14, 25 PC5/ADC12_IN15, 26 PB0/ADC12_IN8/TIM3_CH3/TIM8_CH2N, 27 PB1/ADC12_IN9/TIM3_CH4/TIM8_CH3N, 28 PB2/BOOT1, 29 PB10/I2C2_SCL/USART3_TX, 30 PB11/I2C2_SDA/USART3_RX, 31 VSS_1, 32 VDD_1, 33 TIM1_BKIN/USART3_CK/I2C2_SMBA/I2S2_WS/SPI2_NSS/PB12, 34 TIM1_CH1N/USART3_CTS/I2S2_CK/SPI2_SCK/PB13, 35 USART3_RTS/TIM1_CH2N/SPI2_MISO/PB14, 36 TIM1_CH3N/I2S2_SD/SPI2_MOSI/PB15, 37 SDIO_D6/TIM8_CH1/I2S2_MCK/PC6, 38 SDIO_D7/TIM8_CH2/I2S3_MCK/PC7, 39 SDIO_D0/TIM8_CH3/PC8, 40 SDIO_D1/TIM8_CH4/PC9, 41 MCO/TIM1_CH1/USART1_CK/PA8, 42 TIM1_CH2/USART1_TX/PA9, 43 TIM1_CH3/USART1_RX/PA10, 44 TIM1_CH4/CAN_RX/USBDM/USART1_CTS/PA11, 45 TIM1_ETR/CAN_TX/USBDP/USART1_RTS/PA12, 46 SWDIO/JTMS/PA13, 47 VSS_2, 48 VDD_2, 49 SWCLK/JTCK/PA14, 50 I2S3_WS/SPI3_NSS/JTDI/PA15, 51 SDIO_D2/UART4_TX/PC10, 52 SDIO_D3/UART4_RX/PC11, 53 SDIO_CK/UART5_TX/PC12, 54 SDIO_CMD/UART5_RX/TIM3_ETR/PD2, 55 I2S3_C/SPI3_SCK/JTDO/PB3, 56 SPI3_MISO/NJTRST/PB4, 57 I2S3_SD/SPI3_MOSI/I2C1_SMBA/PB5, 58 TIM4_CH1/I2C1_SCL/PB6, 59 TIM4_CH2/FSMC_NADV/I2C1_SDA/PB7, 60 BOOT0, 61 SDIO_D4/TIM4_CH3/PB8, 62 SDIO_D5/TIM4_CH4/PB9, 63 VSS_3, 64 VDD_3

## STM32F103RCT6
designator U??
footprint LQFP64
pins: 1 VBAT, 2 PC13/ANT1, 3 PC14/OSC32, 4 PC15/OSC32, 5 PD0/OSCIN, 6 PD1/OSCOUT, 7 NRST, 8 PC0/ADC10, 9 PC1/ADC11, 10 PC2/ADC12, 11 PC3/ADC13, 12 VSSA, 13 VDDA, 14 PA0/WKUP/ADC0/TIM2_CH1_ETR/TIM5_CH1/TIM8_ETR, 15 PA1/ADC1/TIM2_CH2/TIM5_CH2, 16 PA2/U2_TX/ADC2/TIM2_CH3/TIM5_CH3, 17 PA3/U2_RX/ADC3/TIM2_CH4/TIM5_CH4, 18 VSS, 19 VDD, 20 PA4/SPI1_NSS/ADC4/DAC1, 21 PA5/SPI1_SCK/ADC5/DAC2, 22 PA6/SPI1_MISO/ADC6/TIM3_CH1/TIM8_BKIN, 23 PA7/SPI1_MOSI/ADC7/TIM3_CH2/TIM8_CH1N, 24 PC4/ADC14, 25 PC5/ADC15, 26 PB0/ADC8/TIM3_CH3/TIM8_CH2N, 27 PB1/ADC9/TIM3_CH4/TIM8_CH3N, 28 PB2/BOOT1, 29 PB10/I2C2_SCL/U3_TX, 30 PB11/I2C2_SDA/U3_RX, 31 VSS, 32 VDD, 33 PB12/SPI2_NSS/I2S2_WS/I2C2_SMBAI/TIM1_BKIN, 34 PB13/SPI2_SCK/I2S2_CK/TIM1_CH1N, 35 PB14/SPI2_MISO/TIM1_CH2N, 36 PB15/SPI2_MOSI/I2S2_SD/TIM1_CH3N, 37 PC6/I2S2_MCK/TIM8_CH1/SDIO_D6, 38 PC7/I2S3_MCK/TIM8_CH2/SDIO_D7, 39 PC8/TIM8_CH3/SDIO_D0, 40 PC9/TIM8_CH4/SDIO_D1, 41 PA8/TIM1_CH1/MCO, 42 PA9/U1_TX/TIM1_CH2, 43 PA10/U1_RX/TIM1_CH3, 44 PA11/CAN_RX/USBDM/TIM1_CH4, 45 PA12/CAN_TX/USBDP/TIM1_ETR, 46 PA13/JTMS/SWDIO, 47 VSS, 48 VDD, 49 PA14/JTCK/SWCLK, 50 PA15/JTDI/SPI3_NSS/I2S3_WS, 51 PC10/U4_TX/SDIO_D2, 52 PC11/U4_RX/SDIO_D3, 53 PC12/U5_TX/SDIO_CK, 54 PD2/TIM3_ETR/U5_RX/SDIO_CMD, 55 PB3/JTDO/SPI3_SCK/I2S3_CK, 56 PB4/JNTRST/SPI3_MISO, 57 PB5/I2C1_SMBA/SPI3_MOSI/I2S3_SD, 58 PB6/I2C1_SCL/TIM4_CH1, 59 PB7/I2C1_SDA/TIM4_CH2, 60 BOOT0, 61 PB8/TIM4_CH3/SDIO_D4, 62 PB9/TIM4_CH4/SDIO_D5, 63 VSS, 64 VDD

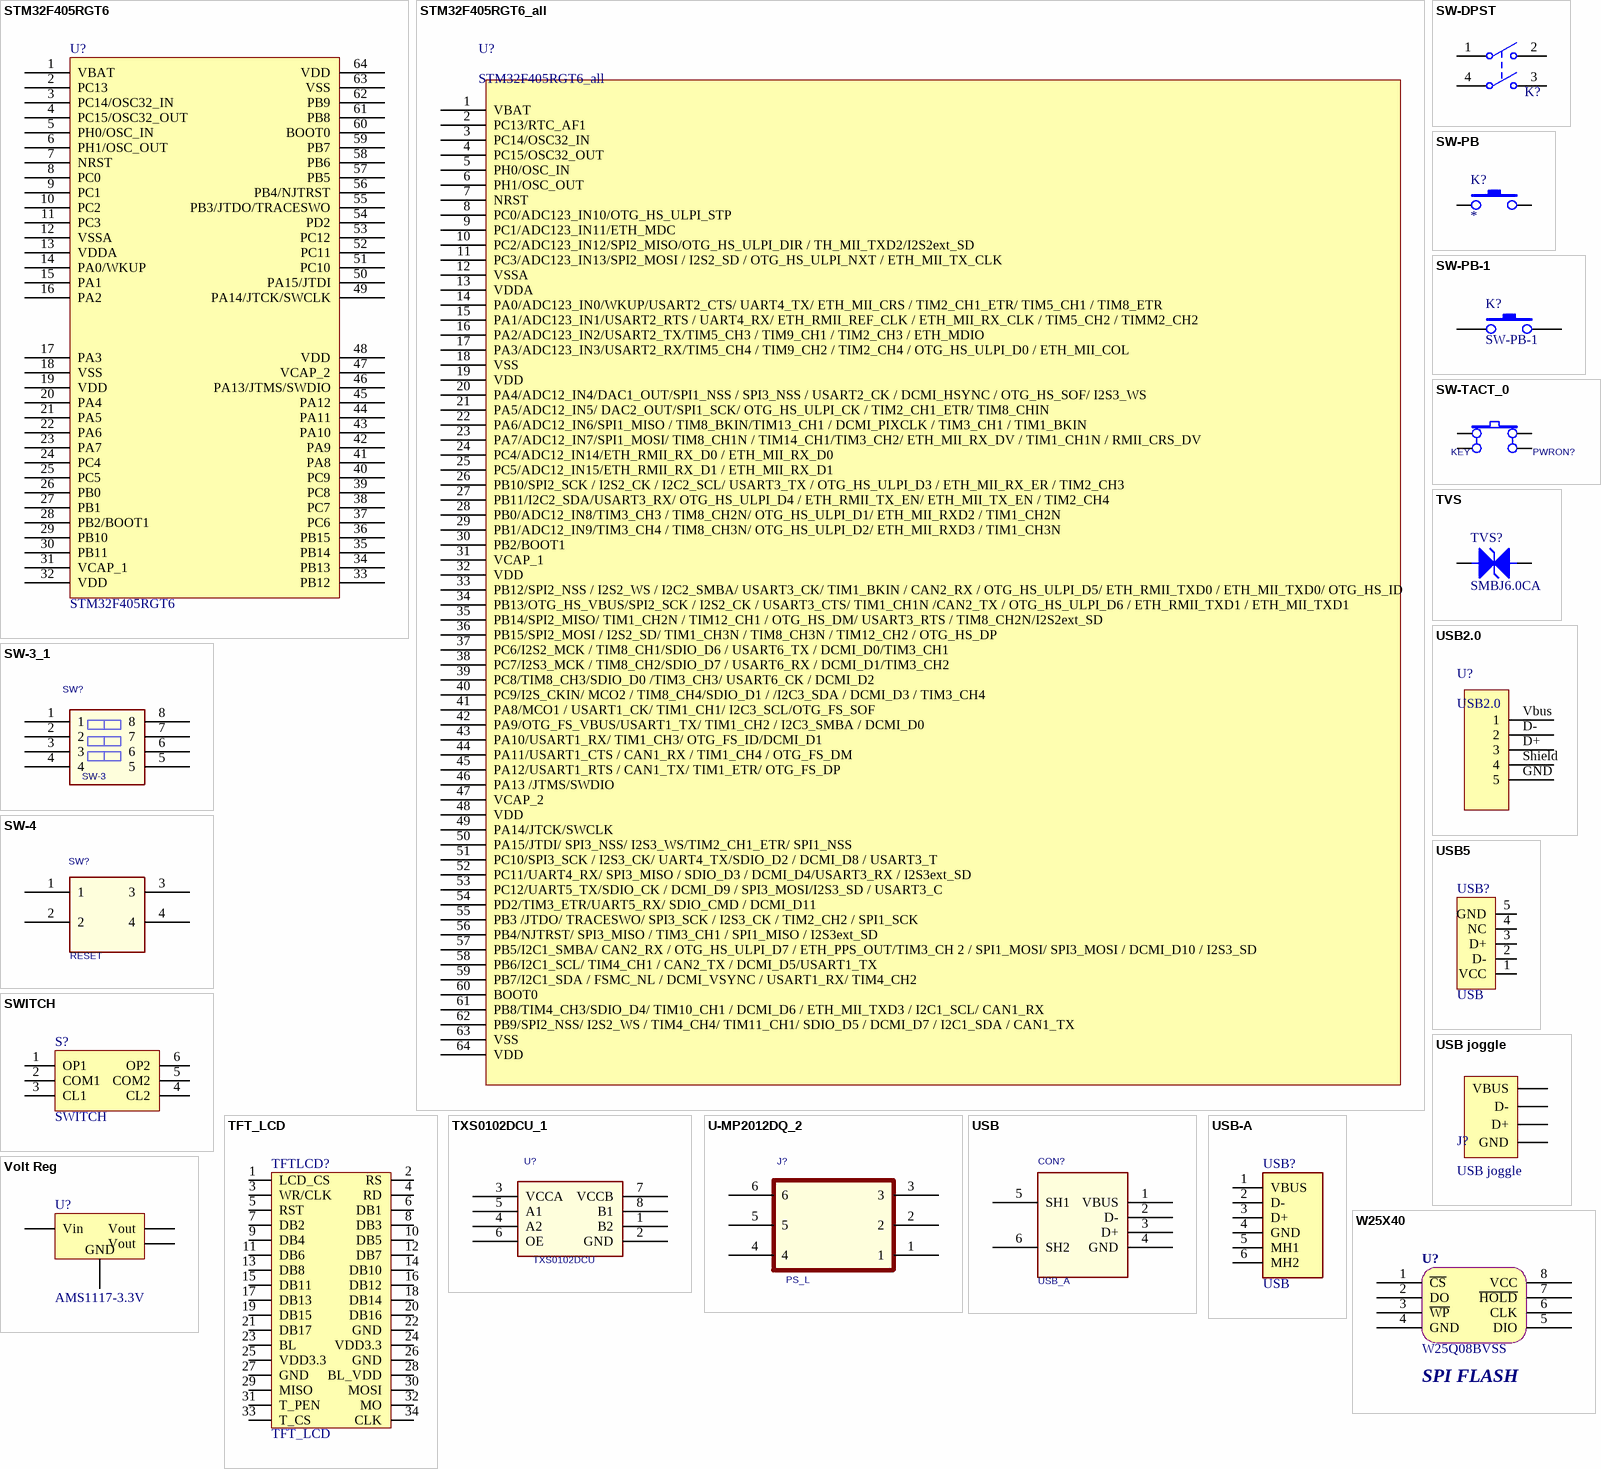
[diagram p4: symbols STM32F405RGT6 to W25X40]

## STM32F405RGT6
designator U?
footprint STM32F405RGT6 - duplicate (LQFP, 64-Leads, Body 10.00x10.00mm, Pitch 0.50mm, IPC Medium Density)
pins: 1 VBAT, 2 PC13, 3 PC14/OSC32_IN, 4 PC15/OSC32_OUT, 5 PH0/OSC_IN, 6 PH1/OSC_OUT, 7 NRST, 8 PC0, 9 PC1, 10 PC2, 11 PC3, 12 VSSA, 13 VDDA, 14 PA0/WKUP, 15 PA1, 16 PA2, 17 PA3, 18 VSS, 19 VDD, 20 PA4, 21 PA5, 22 PA6, 23 PA7, 24 PC4, 25 PC5, 26 PB0, 27 PB1, 28 PB2/BOOT1, 29 PB10, 30 PB11, 31 VCAP_1, 32 VDD, 33 PB12, 34 PB13, 35 PB14, 36 PB15, 37 PC6, 38 PC7, 39 PC8, 40 PC9, 41 PA8, 42 PA9, 43 PA10, 44 PA11, 45 PA12, 46 PA13/JTMS/SWDIO, 47 VCAP_2, 48 VDD, 49 PA14/JTCK/SWCLK, 50 PA15/JTDI, 51 PC10, 52 PC11, 53 PC12, 54 PD2, 55 PB3/JTDO/TRACESWO, 56 PB4/NJTRST, 57 PB5, 58 PB6, 59 PB7, 60 BOOT0, 61 PB8, 62 PB9, 63 VSS, 64 VDD

## STM32F405RGT6_all
designator U?
pins: 1 VBAT, 2 PC13/RTC_AF1, 3 PC14/OSC32_IN , 4 PC15/OSC32_OUT, 5 PH0/OSC_IN , 6 PH1/OSC_OUT, 7 NRST, 8 PC0/ADC123_IN10/OTG_HS_ULPI_STP, 9 PC1/ADC123_IN11/ETH_MDC, 10 PC2/ADC123_IN12/SPI2_MISO/OTG_HS_ULPI_DIR / TH_MII_TXD2/I2S2ext_SD, 11 PC3/ADC123_IN13/SPI2_MOSI / I2S2_SD / OTG_HS_ULPI_NXT / ETH_MII_TX_CLK, 12 VSSA, 13 VDDA, 14 PA0/ADC123_IN0/WKUP/USART2_CTS/ UART4_TX/ ETH_MII_CRS / TIM2_CH1_ETR/ TIM5_CH1 / TIM8_ETR, 15 PA1/ADC123_IN1/USART2_RTS / UART4_RX/ ETH_RMII_REF_CLK / ETH_MII_RX_CLK / TIM5_CH2 / TIMM2_CH2, 16 PA2/ADC123_IN2/USART2_TX/TIM5_CH3 / TIM9_CH1 / TIM2_CH3 / ETH_MDIO, 17 PA3/ADC123_IN3/USART2_RX/TIM5_CH4 / TIM9_CH2 / TIM2_CH4 / OTG_HS_ULPI_D0 / ETH_MII_COL, 18 VSS, 19 VDD, 20 PA4/ADC12_IN4/DAC1_OUT/SPI1_NSS / SPI3_NSS / USART2_CK / DCMI_HSYNC / OTG_HS_SOF/ I2S3_WS, 21 PA5/ADC12_IN5/ DAC2_OUT/SPI1_SCK/ OTG_HS_ULPI_CK / TIM2_CH1_ETR/ TIM8_CHIN  , 22 PA6/ADC12_IN6/SPI1_MISO / TIM8_BKIN/TIM13_CH1 / DCMI_PIXCLK / TIM3_CH1 / TIM1_BKIN , 23 PA7/ADC12_IN7/SPI1_MOSI/ TIM8_CH1N / TIM14_CH1/TIM3_CH2/ ETH_MII_RX_DV / TIM1_CH1N / RMII_CRS_DV  , 24 PC4/ADC12_IN14/ETH_RMII_RX_D0 / ETH_MII_RX_D0, 25 PC5/ADC12_IN15/ETH_RMII_RX_D1 / ETH_MII_RX_D1, 26 PB10/SPI2_SCK / I2S2_CK / I2C2_SCL/ USART3_TX / OTG_HS_ULPI_D3 / ETH_MII_RX_ER / TIM2_CH3, 27 PB11/I2C2_SDA/USART3_RX/ OTG_HS_ULPI_D4 / ETH_RMII_TX_EN/ ETH_MII_TX_EN / TIM2_CH4, 28 PB0/ADC12_IN8/TIM3_CH3 / TIM8_CH2N/ OTG_HS_ULPI_D1/ ETH_MII_RXD2 / TIM1_CH2N, 29 PB1/ADC12_IN9/TIM3_CH4 / TIM8_CH3N/ OTG_HS_ULPI_D2/ ETH_MII_RXD3 / TIM1_CH3N, 30 PB2/BOOT1, 31 VCAP_1, 32 VDD, 33 PB12/SPI2_NSS / I2S2_WS / I2C2_SMBA/ USART3_CK/ TIM1_BKIN / CAN2_RX / OTG_HS_ULPI_D5/ ETH_RMII_TXD0 / ETH_MII_TXD0/ OTG_HS_ID, 34 PB13/OTG_HS_VBUS/SPI2_SCK / I2S2_CK / USART3_CTS/ TIM1_CH1N /CAN2_TX / OTG_HS_ULPI_D6 / ETH_RMII_TXD1 / ETH_MII_TXD1, 35 PB14/SPI2_MISO/ TIM1_CH2N / TIM12_CH1 / OTG_HS_DM/ USART3_RTS / TIM8_CH2N/I2S2ext_SD, 36 PB15/SPI2_MOSI / I2S2_SD/ TIM1_CH3N / TIM8_CH3N / TIM12_CH2 / OTG_HS_DP , 37 PC6/I2S2_MCK / TIM8_CH1/SDIO_D6 / USART6_TX / DCMI_D0/TIM3_CH1  , 38 PC7/I2S3_MCK / TIM8_CH2/SDIO_D7 / USART6_RX / DCMI_D1/TIM3_CH2  , 39 PC8/TIM8_CH3/SDIO_D0 /TIM3_CH3/ USART6_CK / DCMI_D2 , 40 PC9/I2S_CKIN/ MCO2 / TIM8_CH4/SDIO_D1 / /I2C3_SDA / DCMI_D3 / TIM3_CH4 , 41 PA8/MCO1 / USART1_CK/ TIM1_CH1/ I2C3_SCL/OTG_FS_SOF  , 42 PA9/OTG_FS_VBUS/USART1_TX/ TIM1_CH2 / I2C3_SMBA / DCMI_D0  , 43 PA10/USART1_RX/ TIM1_CH3/ OTG_FS_ID/DCMI_D1  , 44 PA11/USART1_CTS / CAN1_RX / TIM1_CH4 / OTG_FS_DM , 45 PA12/USART1_RTS / CAN1_TX/ TIM1_ETR/ OTG_FS_DP, 46 PA13 /JTMS/SWDIO, 47 VCAP_2, 48 VDD, 49 PA14/JTCK/SWCLK  , 50 PA15/JTDI/ SPI3_NSS/ I2S3_WS/TIM2_CH1_ETR/ SPI1_NSS, 51 PC10/SPI3_SCK / I2S3_CK/ UART4_TX/SDIO_D2 / DCMI_D8 / USART3_T, 52 PC11/UART4_RX/ SPI3_MISO / SDIO_D3 / DCMI_D4/USART3_RX / I2S3ext_SD, 53 PC12/UART5_TX/SDIO_CK / DCMI_D9 / SPI3_MOSI/I2S3_SD / USART3_C, 54 PD2/TIM3_ETR/UART5_RX/ SDIO_CMD / DCMI_D11, 55 PB3 /JTDO/ TRACESWO/ SPI3_SCK / I2S3_CK / TIM2_CH2 / SPI1_SCK, 56 PB4/NJTRST/ SPI3_MISO / TIM3_CH1 / SPI1_MISO / I2S3ext_SD, 57 PB5/I2C1_SMBA/ CAN2_RX / OTG_HS_ULPI_D7 / ETH_PPS_OUT/TIM3_CH 2 / SPI1_MOSI/ SPI3_MOSI / DCMI_D10 / I2S3_SD, 58 PB6/I2C1_SCL/ TIM4_CH1 / CAN2_TX / DCMI_D5/USART1_TX, 59 PB7/I2C1_SDA / FSMC_NL / DCMI_VSYNC / USART1_RX/ TIM4_CH2, 60 BOOT0, 61 PB8/TIM4_CH3/SDIO_D4/ TIM10_CH1 / DCMI_D6 / ETH_MII_TXD3 / I2C1_SCL/ CAN1_RX, 62 PB9/SPI2_NSS/ I2S2_WS / TIM4_CH4/ TIM11_CH1/ SDIO_D5 / DCMI_D7 / I2C1_SDA / CAN1_TX, 63 VSS, 64 VDD

## SW-3_1
designator SW?, comment SW-3
footprint bmkg4
pins: 1, 2, 3, 4, 5, 6, 7, 8

## SW-4
designator SW?, comment RESET
footprint SW_TH_6_6MM
footprint SW4-SMD
pins: 1, 2, 3, 4

## SW-DPST
designator K?  (value not drawn)
Double-Pole, Single-Throw Switch; Published: 24-Mar-1999; LatestRevisionDate: 17-Jul-2002; LatestRevisionNote: Re-released for DXP Platform.; PackageReference: DPST-4; Publisher: Altium Limited
footprint SWITCH2
pins: 1 COMMON1, 2 NO1, 3 NO2, 4 COMMON2

## SW-PB
designator K?
footprint KEY6.2_6.2
pins: 1, 2

## SW-PB-1
designator K?
轻触按键
footprint SWITCH_5X12
footprint KEY STOKE
footprint SWITCH_1
footprint BUTTOM-V
pins: 1, 2

## SW-TACT_0
designator PWRON?, comment KEY
footprint SW-TACT
footprint SW4-SMD
pins: 1 I2, 2 I3, 3 1, 4 I1

## SWITCH
designator S?
footprint SWITCH_6
pins: 1 OP1, 2 COM1, 3 CL1, 4 CL2, 5 COM2, 6 OP2

## TFT_LCD
designator TFTLCD?
footprint DB2*17 (DB_LCD)
pins: 1 LCD_CS, 2 RS, 3 WR/CLK, 4 RD, 5 RST, 6 DB1, 7 DB2, 8 DB3, 9 DB4, 10 DB5, 11 DB6, 12 DB7, 13 DB8, 14 DB10, 15 DB11, 16 DB12, 17 DB13, 18 DB14, 19 DB15, 20 DB16, 21 DB17, 22 GND, 23 BL, 24 VDD3.3, 25 VDD3.3, 26 GND, 27 GND, 28 BL_VDD, 29 MISO, 30 MOSI, 31 T_PEN, 32 MO, 33 T_CS, 34 CLK

## TVS
designator TVS?, comment SMBJ6.0CA
footprint SMA(DO-214AC)
footprint LL-34
footprint SMB(DO-214AA)-BI
pins: 1 A, 2 K

## TXS0102DCU_1
designator U?, comment TXS0102DCU
footprint tssop8
pins: 1 B2, 2 GND, 3 VCCA, 4 A2, 5 A1, 6 OE, 7 VCCB, 8 B1

## U-MP2012DQ_2
designator J?, comment PS_L
footprint QFN6
footprint SWITCH_DDSZ
pins: 1, 2, 3, 4, 5, 6

## USB
designator CON?, comment USB_A
footprint USB-A2
pins: 1 VBUS, 2 D-, 3 D+, 4 GND, 5 SH1, 6 SH2

## USB2.0
designator U?
pins: D+ 3, D- 2, GND 5, Shield 4, Vbus 1

## USB5
designator USB?, comment USB
footprint USB/SM0.8-6H5
pins: 1 VCC, 2 D-, 3 D+, 4 NC, 5 GND

## USB joggle
designator J?
footprint USB joggle (USB B型母头)
pins: 1 VBUS (power), 2 D-, 3 D+, 4 GND (power), 5 (power) hidden to 4, 6 (power) hidden to 4

## USB-A
designator USB?, comment USB
footprint USB-A-180
pins: 1 VBUS, 2 D-, 3 D+, 4 GND, 5 MH1, 6 MH2

## Volt Reg
designator U?, comment AMS1117-3.3V
Voltage Regulator; Published: 24-Mar-1999; LatestRevisionDate: 17-Jul-2002; LatestRevisionNote: Re-released for DXP Platform.; PackageReference: D2PAK; Publisher: Altium Limited; Code_JEDEC: SMD-220
footprint D2PAK (D2-PAK/TO-263-AB; 3 Leads (1 Cropped); Body 15.5 (inc. leads) x 10.5 mm (LxW max))
pins: 1 Vin, 2 GND, 3 Vout, 3 Vout

## W25X40
designator U?, comment W25Q08BVSS  USAGE: SPI FLASH
Nor Flash
footprint SOIC-AB (Footprint not found)
pins: 1 ~{CS}, 2 DO, 3 ~{WP}, 4 GND, 5 DIO, 6 CLK, 7 ~{HOLD}, 8 VCC

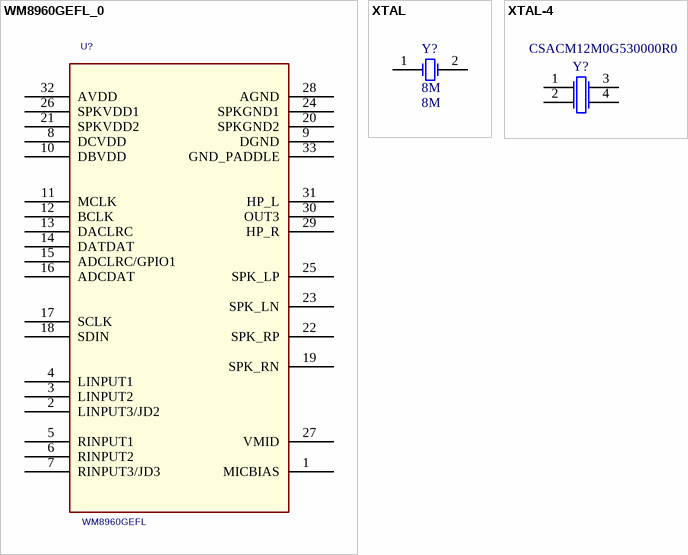
[diagram p5: symbols WM8960GEFL_0 to XTAL-4]

## WM8960GEFL_0
designator U?, comment WM8960GEFL
footprint QFN32-050-5X5LH
pins: 1 MICBIAS, 2 LINPUT3/JD2, 3 LINPUT2, 4 LINPUT1, 5 RINPUT1, 6 RINPUT2, 7 RINPUT3/JD3, 8 DCVDD, 9 DGND, 10 DBVDD, 11 MCLK, 12 BCLK, 13 DACLRC, 14 DATDAT, 15 ADCLRC/GPIO1, 16 ADCDAT, 17 SCLK, 18 SDIN, 19 SPK_RN, 20 SPKGND2, 21 SPKVDD2, 22 SPK_RP, 23 SPK_LN, 24 SPKGND1, 25 SPK_LP, 26 SPKVDD1, 27 VMID, 28 AGND, 29 HP_R, 30 OUT3, 31 HP_L, 32 AVDD, 33 GND_PADDLE

## XTAL
designator Y?, comment 8M
Crystal Oscillator; Published: 8-Jun-2000; LatestRevisionDate: 17-Jul-2002; LatestRevisionNote: Re-released for DXP Platform.; Publisher: Altium Limited
footprint LC-HC-49S
simulation model XTAL (Spice Subcircuit)
pins: 1 OSC1, 2 OSC2

## XTAL-4
designator Y?, comment CSACM12M0G530000R0
Crystal Oscillator; Published: 8-Jun-2000; LatestRevisionDate: 17-Jul-2002; LatestRevisionNote: Re-released for DXP Platform.; PackageReference: R38; Publisher: Altium Limited
footprint CRYSTAL_RSX-10
pins: 1 OSC1, 2 OSC1, 3 OSC2, 4 OSC2